# Altium footprint library SOIC-4.PcbLib: 1 footprints
Each footprint in its own frame and in the unit in brackets; x right, y up, seen from the top. Pads: shape width x height; smd on the part's side, far side on the other; paste and mask are expansions set on the pad; w line width, h text height; cw(c..) or ccw(c..) is an arc to the next point about the centre after c.
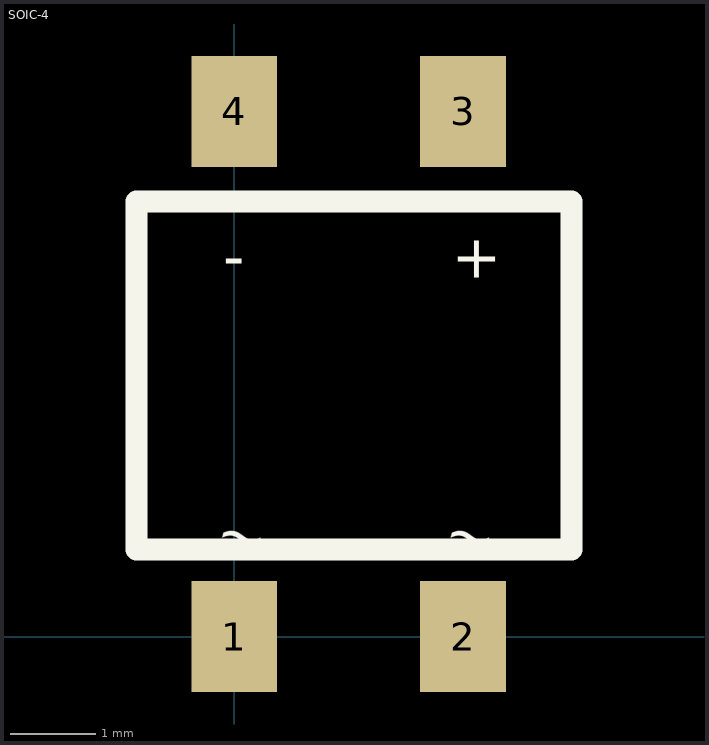
[diagram p0: the footprint, top view; thin cyan lines are the x and y axes]

## SOIC-4 [mm]
height 2.6
pads (4):
  rect 1x1.3 smd: 1(0,0) 2(2.67,0) 3(2.67,6.13) 4(0,6.13)
Top Overlay:
  lines w0.254: -1.143,1.016 3.937,1.016 3.937,5.08 -1.143,5.08 -1.143,1.016
  text "~" at 2.413,1.016 h0.51
  text "~" at -0.254,1.016 h0.51
  text "-" at -0.127,4.191 h0.51
  text "+" at 2.54,4.191 h0.51
3D body: height 2.6, standoff 0, extent -1.27,0.889 4.064,5.207